# Altium footprint library S7500_DRIVER.PcbLib: 20 footprints (part 1 of 2)
Each footprint in its own frame and in the unit in brackets; x right, y up, seen from the top. Pads: shape width x height; smd on the part's side, far side on the other; paste and mask are expansions set on the pad; w line width, h text height; cw(c..) or ccw(c..) is an arc to the next point about the centre after c.
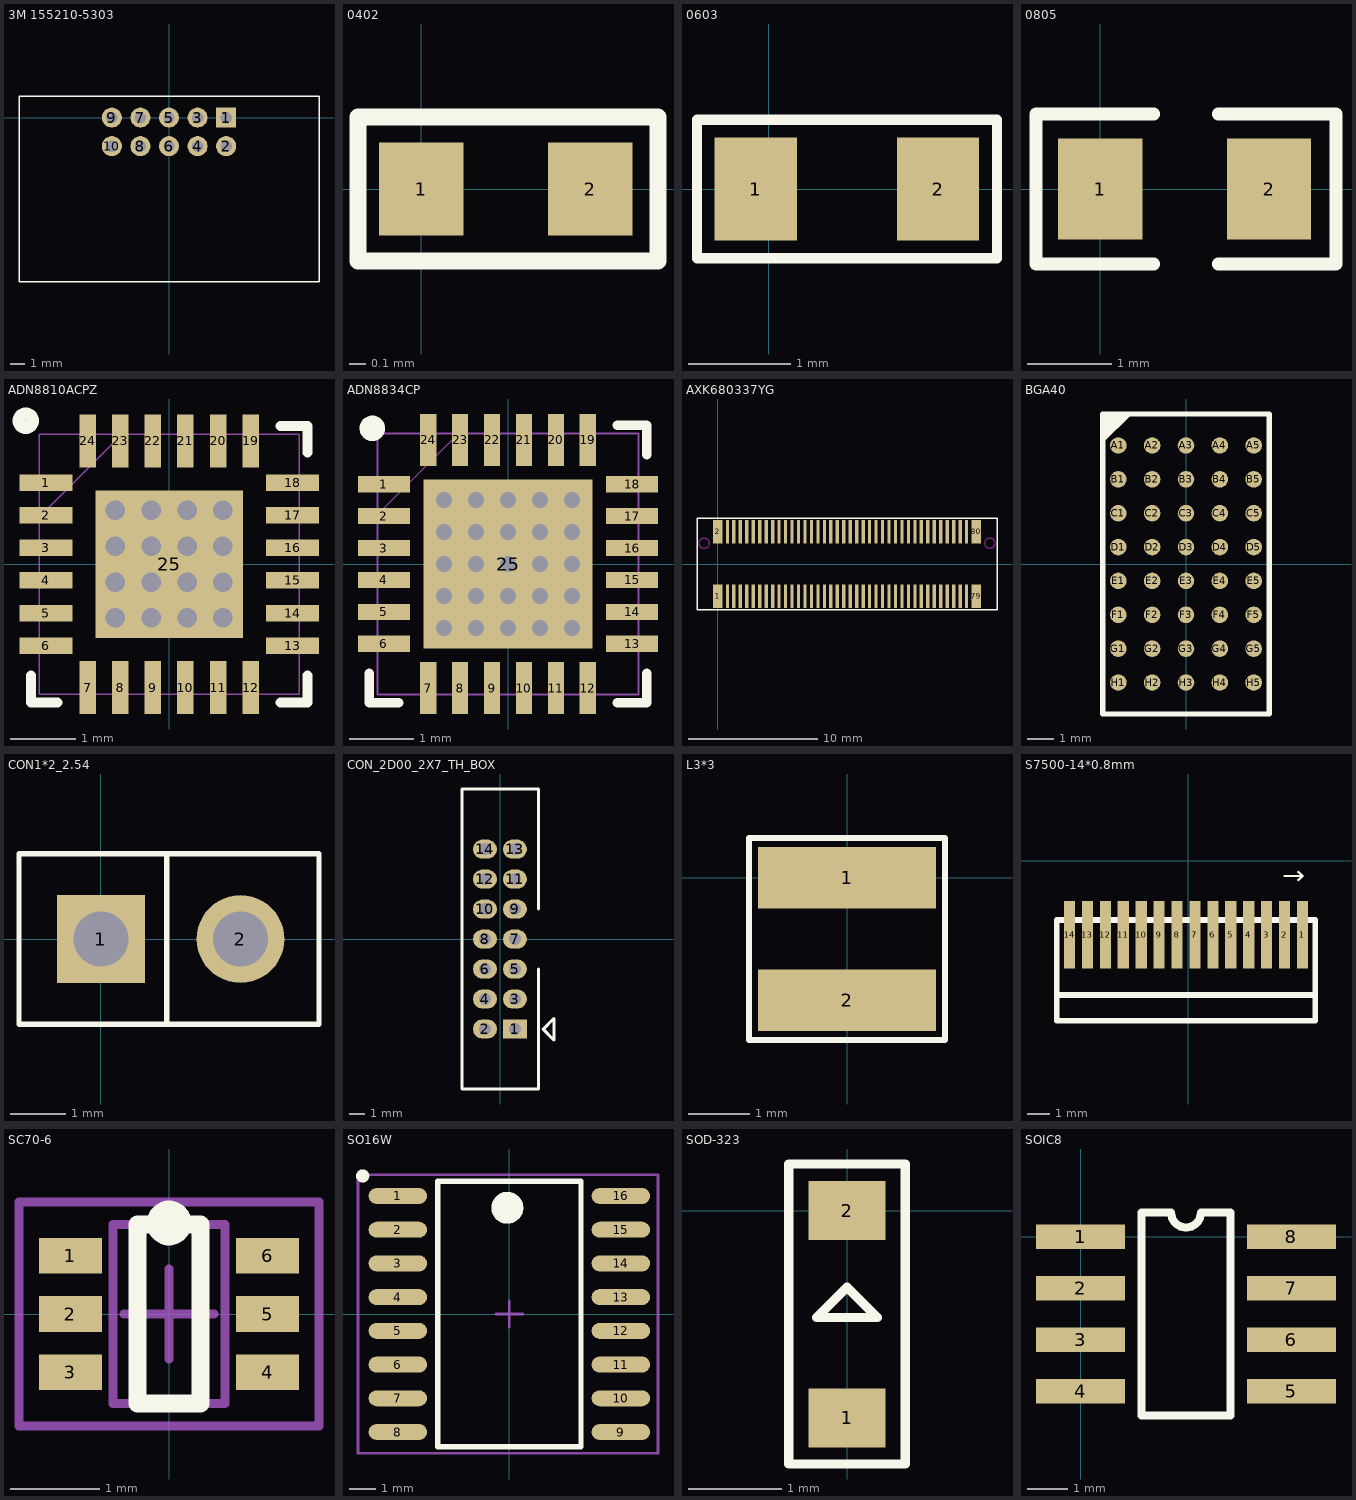
[diagram p0: the footprints below, top view; thin cyan lines are the x and y axes]

## 3M 155210-5303 [mm]
pads (10):
  rect 1.4x1.4 hole 0.8: 1(4,0)
  round 1.4 hole 0.8: 2(4,-2) 3(2,0) 4(2,-2) 5(0,0) 6(0,-2) 7(-2,0) 8(-2,-2) 9(-4,0) 10(-4,-2)
Top Overlay:
  lines w0.1: -10.5,-11.5 10.5,-11.5 10.5,1.5 -10.5,1.5 -10.5,-11.5

## 0402 [mm]
pads (2):
  rect 0.5x0.55 smd: 1(0,0) 2(1,0)
Top Overlay:
  lines w0.1: -0.375,-0.425 -0.375,0.425 1.4,0.425 1.4,-0.425 -0.375,-0.425

## 0603 [mm]
pads (2):
  rect 0.8x1 smd: 1(-0.127,0) 2(1.651,0)
Top Overlay:
  lines w0.1: -0.7,-0.675 2.225,-0.675 2.225,0.675 -0.7,0.675 -0.7,-0.675

## 0805 [mm]
pads (2):
  rect 1x1.2 smd: 1(0,0) 2(2,0)
Top Overlay:
  lines w0.15: 0.635,-0.889 -0.762,-0.889 -0.762,0.889 0.635,0.889 ; 1.397,-0.889 2.794,-0.889 2.794,0.889 1.397,0.889

## ADN8810ACPZ [mil]
pads (25):
  rect 32x10 smd paste+0 mask+4: 1(-74.5,49.21) 2(-74.5,29.53) 3(-74.5,9.84) 4(-74.5,-9.84) 5(-74.5,-29.53) 6(-74.5,-49.21) 13(74.5,-49.21) 14(74.5,-29.53) 15(74.5,-9.84) 16(74.5,9.84) 17(74.5,29.53) 18(74.5,49.21)
  rect 10x32 smd paste+0 mask+4: 7(-49.21,-74.5) 8(-29.53,-74.5) 9(-9.84,-74.5) 10(9.84,-74.5) 11(29.53,-74.5) 12(49.21,-74.5) 19(49.21,74.5) 20(29.53,74.5) 21(9.84,74.5) 22(-9.84,74.5) 23(-29.53,74.5) 24(-49.21,74.5)
  rect 89x89 smd paste+0 mask+4: 25(0,0)
via -32.48,-32.48 diameter 19.68 hole 11.81
via 32.48,-32.48 diameter 19.68 hole 11.81
via -10.83,-32.48 diameter 19.68 hole 11.81
via 10.83,-32.48 diameter 19.68 hole 11.81
via 32.48,-10.83 diameter 19.68 hole 11.81
via -10.83,-10.83 diameter 19.68 hole 11.81
via 10.83,-10.83 diameter 19.68 hole 11.81
via 32.48,10.83 diameter 19.68 hole 11.81
via -10.83,10.83 diameter 19.68 hole 11.81
via 10.83,10.83 diameter 19.68 hole 11.81
via -32.48,10.83 diameter 19.68 hole 11.81
via -32.48,-10.83 diameter 19.68 hole 11.81
via 10.83,32.48 diameter 19.68 hole 11.81
via -10.83,32.48 diameter 19.68 hole 11.81
via 32.48,32.48 diameter 19.68 hole 11.81
via -32.48,32.48 diameter 19.68 hole 11.81
Top Overlay:
  lines w6: -83.5,-67.31 -83.5,-83.5 -67.31,-83.5 ; 67.31,-83.5 83.5,-83.5 83.5,-67.31 ; 67.31,83.5 83.5,83.5 83.5,67.31
  lines w7.87: -82.63,85.82 cw(c-86.61,86.61) -82.56,86.61
Mechanical 13:
  lines w1: -78.5,28.5 -28.5,78.5 ; -78.5,-78.5 -78.5,78.5 78.5,78.5 78.5,-78.5 -78.5,-78.5 ; -78.5,-55.21 -78.5,-43.21 -78.5,-55.21 ; -78.5,-35.53 -78.5,-23.53 -78.5,-35.53 ; -78.5,-15.84 -78.5,-3.84 -78.5,-15.84 ; -78.5,3.84 -78.5,15.84 -78.5,3.84 ; -78.5,23.53 -78.5,35.53 -78.5,23.53 ; -78.5,43.21 -78.5,55.21 -78.5,43.21 ; -55.21,-78.5 -43.21,-78.5 -55.21,-78.5 ; -55.21,78.5 -43.21,78.5 -55.21,78.5 ; -35.53,-78.5 -23.53,-78.5 -35.53,-78.5 ; -35.53,78.5 -23.53,78.5 -35.53,78.5 ; -15.84,-78.5 -3.84,-78.5 -15.84,-78.5 ; -15.84,78.5 -3.84,78.5 -15.84,78.5 ; 3.84,-78.5 15.84,-78.5 3.84,-78.5 ; 3.84,78.5 15.84,78.5 3.84,78.5 ; 23.53,-78.5 35.53,-78.5 23.53,-78.5 ; 23.53,78.5 35.53,78.5 23.53,78.5 ; 43.21,-78.5 55.21,-78.5 43.21,-78.5 ; 43.21,78.5 55.21,78.5 43.21,78.5 ; 78.5,-55.21 78.5,-43.21 78.5,-55.21 ; 78.5,-35.53 78.5,-23.53 78.5,-35.53 ; 78.5,-15.84 78.5,-3.84 78.5,-15.84 ; 78.5,3.84 78.5,15.84 78.5,3.84 ; 78.5,23.53 78.5,35.53 78.5,23.53 ; 78.5,43.21 78.5,55.21 78.5,43.21
  text "*" at -71,34.06 h23.62
3D body "CP_24_1_ADI.step": height 39.09, standoff 0, extent -78.5,-78.5 78.5,78.5

## ADN8834CP [mil]
pads (25):
  rect 32x10 smd paste+0 mask+3.94: 1(-76.5,49.21) 2(-76.5,29.53) 3(-76.5,9.84) 4(-76.5,-9.84) 5(-76.5,-29.53) 6(-76.5,-49.21) 13(76.5,-49.21) 14(76.5,-29.53) 15(76.5,-9.84) 16(76.5,9.84) 17(76.5,29.53) 18(76.5,49.21)
  rect 10x32 smd paste+0 mask+3.94: 7(-49.21,-76.5) 8(-29.53,-76.5) 9(-9.84,-76.5) 10(9.84,-76.5) 11(29.53,-76.5) 12(49.21,-76.5) 19(49.21,76.5) 20(29.53,76.5) 21(9.84,76.5) 22(-9.84,76.5) 23(-29.53,76.5) 24(-49.21,76.5)
  rect 104x104 smd paste-51.5 mask+0: 25(0,0)
via 19.68,-19.68 diameter 15.75 hole 9.84
via 39.37,-39.37 diameter 15.75 hole 9.84
via 39.37,-19.68 diameter 15.75 hole 9.84
via -39.37,0 diameter 15.75 hole 9.84
via -39.37,0 diameter 15.75 hole 9.84
via -19.68,-39.37 diameter 15.75 hole 9.84
via 0,-39.37 diameter 15.75 hole 9.84
via 19.68,-39.37 diameter 15.75 hole 9.84
via -19.68,-19.68 diameter 15.75 hole 9.84
via 0,-19.68 diameter 15.75 hole 9.84
via -19.68,0 diameter 15.75 hole 9.84
via 0,0 diameter 15.75 hole 9.84
via 19.68,0 diameter 15.75 hole 9.84
via 39.37,0 diameter 15.75 hole 9.84
via -19.68,19.68 diameter 15.75 hole 9.84
via 0,19.68 diameter 15.75 hole 9.84
via 19.68,19.68 diameter 15.75 hole 9.84
via 39.37,19.68 diameter 15.75 hole 9.84
via -39.37,19.68 diameter 15.75 hole 9.84
via -39.37,-19.68 diameter 15.75 hole 9.84
via -39.37,-39.37 diameter 15.75 hole 9.84
via 39.37,39.37 diameter 15.75 hole 9.84
via 19.68,39.37 diameter 15.75 hole 9.84
via 0,39.37 diameter 15.75 hole 9.84
via -19.68,39.37 diameter 15.75 hole 9.84
via -39.37,39.37 diameter 15.75 hole 9.84
Top Overlay:
  lines w6: -85.5,-67.31 -85.5,-85.5 -67.31,-85.5 ; 67.31,-85.5 85.5,-85.5 85.5,-67.31 ; 67.31,85.5 85.5,85.5 85.5,67.31
  lines w7.87: -79.74,83.27 cw(c-83.66,83.66) -79.72,83.66
Top Paste:
  region: 48.06,-3.94 3.94,-3.94 3.94,-48.06 48.06,-48.06
  region: 48.06,48.06 3.94,48.06 3.94,3.94 48.06,3.94
  region: -3.94,-3.94 -48.06,-3.94 -48.06,-48.06 -3.94,-48.06
  region: -3.94,48.06 -48.06,48.06 -48.06,3.94 -3.94,3.94
Mechanical 13:
  lines w1: -80.5,30.5 -30.5,80.5 ; -80.5,-80.5 -80.5,80.5 80.5,80.5 80.5,-80.5 -80.5,-80.5 ; -80.5,-55.21 -80.5,-43.21 -80.5,-55.21 ; -80.5,-35.53 -80.5,-23.53 -80.5,-35.53 ; -80.5,-15.84 -80.5,-3.84 -80.5,-15.84 ; -80.5,3.84 -80.5,15.84 -80.5,3.84 ; -80.5,23.53 -80.5,35.53 -80.5,23.53 ; -80.5,43.21 -80.5,55.21 -80.5,43.21 ; -55.21,-80.5 -43.21,-80.5 -55.21,-80.5 ; -55.21,80.5 -43.21,80.5 -55.21,80.5 ; -35.53,-80.5 -23.53,-80.5 -35.53,-80.5 ; -35.53,80.5 -23.53,80.5 -35.53,80.5 ; -15.84,-80.5 -3.84,-80.5 -15.84,-80.5 ; -15.84,80.5 -3.84,80.5 -15.84,80.5 ; 3.84,-80.5 15.84,-80.5 3.84,-80.5 ; 3.84,80.5 15.84,80.5 3.84,80.5 ; 23.53,-80.5 35.53,-80.5 23.53,-80.5 ; 23.53,80.5 35.53,80.5 23.53,80.5 ; 43.21,-80.5 55.21,-80.5 43.21,-80.5 ; 43.21,80.5 55.21,80.5 43.21,80.5 ; 80.5,-55.21 80.5,-43.21 80.5,-55.21 ; 80.5,-35.53 80.5,-23.53 80.5,-35.53 ; 80.5,-15.84 80.5,-3.84 80.5,-15.84 ; 80.5,3.84 80.5,15.84 80.5,3.84 ; 80.5,23.53 80.5,35.53 80.5,23.53 ; 80.5,43.21 80.5,55.21 80.5,43.21
3D body "CP_24_7_ADI.step": height 32.09, standoff 0, extent -80.51,-80.51 80.51,80.51

## AXK680337YG [mm]
pads (80):
  rect 0.75x1.8 smd mask+0.025: 1(0,-2.5) 2(0,2.5) 79(20,-2.5) 80(20,2.5)
  rect 0.25x1.8 smd mask+0.025: 3(0.75,-2.5) 4(0.75,2.5) 5(1.25,-2.5) 6(1.25,2.5) 7(1.75,-2.5) 8(1.75,2.5) 9(2.25,-2.5) 10(2.25,2.5) 11(2.75,-2.5) 12(2.75,2.5) 13(3.25,-2.5) 14(3.25,2.5) 15(3.75,-2.5) 16(3.75,2.5) 17(4.25,-2.5) 18(4.25,2.5) 19(4.75,-2.5) 20(4.75,2.5) 21(5.25,-2.5) 22(5.25,2.5) 23(5.75,-2.5) 24(5.75,2.5) 25(6.25,-2.5) 26(6.25,2.5) 27(6.75,-2.5) 28(6.75,2.5) 29(7.25,-2.5) 30(7.25,2.5) 31(7.75,-2.5) 32(7.75,2.5) 33(8.25,-2.5) 34(8.25,2.5) 35(8.75,-2.5) 36(8.75,2.5) 37(9.25,-2.5) 38(9.25,2.5) 39(9.75,-2.5) 40(9.75,2.5) 41(10.25,-2.5) 42(10.25,2.5) 43(10.75,-2.5) 44(10.75,2.5) 45(11.25,-2.5) 46(11.25,2.5) 47(11.75,-2.5) 48(11.75,2.5) 49(12.25,-2.5) 50(12.25,2.5) 51(12.75,-2.5) 52(12.75,2.5) 53(13.25,-2.5) 54(13.25,2.5) 55(13.75,-2.5) 56(13.75,2.5) 57(14.25,-2.5) 58(14.25,2.5) 59(14.75,-2.5) 60(14.75,2.5) 61(15.25,-2.5) 62(15.25,2.5) 63(15.75,-2.5) 64(15.75,2.5) 65(16.25,-2.5) 66(16.25,2.5) 67(16.75,-2.5) 68(16.75,2.5) 69(17.25,-2.5) 70(17.25,2.5) 71(17.75,-2.5) 72(17.75,2.5) 73(18.25,-2.5) 74(18.25,2.5) 75(18.75,-2.5) 76(18.75,2.5) 77(19.25,-2.5) 78(19.25,2.5)
Top Overlay:
  lines w0.1: -1.6,-3.55 21.6,-3.55 21.6,3.55 -1.6,3.55 -1.6,-3.55
Keep-Out Layer:
  lines w0.1: -0.65,1.59 cw(c-1.05,1.6) -0.65,1.6 ; 21.45,1.59 cw(c21.05,1.6) 21.45,1.6

## BGA40 [mm] "BGA, 40-Leads, Body 11.3x6.3mm,  Pitch 1.27mm"
height 4.92
pads (40):
  round 0.62 smd: A1(-2.54,4.445) A2(-1.27,4.445) A3(0,4.445) A4(1.27,4.445) A5(2.54,4.445) B1(-2.54,3.175) B2(-1.27,3.175) B3(0,3.175) B4(1.27,3.175) B5(2.54,3.175) C1(-2.54,1.905) C2(-1.27,1.905) C3(0,1.905) C4(1.27,1.905) C5(2.54,1.905) D1(-2.54,0.635) D2(-1.27,0.635) D3(0,0.635) D4(1.27,0.635) D5(2.54,0.635) E1(-2.54,-0.635) E2(-1.27,-0.635) E3(0,-0.635) E4(1.27,-0.635) E5(2.54,-0.635) F1(-2.54,-1.905) F2(-1.27,-1.905) F3(0,-1.905) F4(1.27,-1.905) F5(2.54,-1.905) G1(-2.54,-3.175) G2(-1.27,-3.175) G3(0,-3.175) G4(1.27,-3.175) G5(2.54,-3.175) H1(-2.54,-4.445) H2(-1.27,-4.445) H3(0,-4.445) H4(1.27,-4.445) H5(2.54,-4.445)
Top Overlay:
  region: -2.16,5.625 -3.125,4.66 -3.125,5.625
  lines w0.2: -3.125,4.66 -2.16,5.625 ; -3.125,-5.625 -3.125,5.625 3.125,5.625 3.125,-5.625 -3.125,-5.625
Mechanical 13:
  lines w0.1: -3.125,-5.625 -3.125,5.625 3.125,5.625 3.125,-5.625 -3.125,-5.625

## CON1*2_2.54 [mm]
pads (2):
  rect 1.6x1.6 hole 1: 1(0,0)
  round 1.6 hole 1 paste+0: 2(2.54,0)
Top Overlay:
  lines w0.1: 1.2,-1.556 1.2,1.556 ; -1.492,-1.556 -1.492,1.556 3.969,1.556 3.969,-1.556 -1.492,-1.556

## CON_2D00_2X7_TH_BOX [mil] "CON_2D00_2X7_TH_BOX"
pads (14):
  rect 63x50 hole 32: 1(38.74,-236.44)
  oval 63x50 hole 32: 2(-40,-236.44) 3(38.74,-157.7) 4(-40,-157.7) 5(38.74,-78.96) 6(-40,-78.96) 7(38.74,-0.22) 8(-40,-0.22) 9(38.74,78.52) 10(-40,78.52) 11(38.74,157.26) 12(-40,157.26) 13(38.74,236) 14(-40,236)
Top Overlay:
  lines w7.87: 100,-78.96 100,-394 -100,-393.92 -100,394 100,394 100,393.48 100,78.52 ; 113,-237 141,-209 141,-265 113,-237

## L3*3 [mm]
pads (2):
  rect 2.9x1 smd: 1(0,0) 2(0,-2)
Top Overlay:
  lines w0.1: -1.6,-2.65 1.6,-2.65 1.6,0.65 -1.6,0.65 -1.6,-2.65

## S7500-14*0.8mm [mm]
pads (14):
  rect 0.5x3 smd: 1(5.092,-3.318) 2(4.292,-3.318) 3(3.492,-3.318) 4(2.692,-3.318) 5(1.892,-3.318) 6(1.092,-3.318) 7(0.292,-3.318) 8(-0.508,-3.318) 9(-1.308,-3.318) 10(-2.108,-3.318) 11(-2.908,-3.318) 12(-3.708,-3.318) 13(-4.508,-3.318) 14(-5.308,-3.318)
Top Overlay:
  lines w0.254: -5.842,-6.009 5.588,-6.009 ; -5.877,-7.161 -5.877,-2.661 5.663,-2.661 5.663,-7.161 -5.877,-7.161
  text "→" at 4.191,-1.374 h1.52

## SC70-6 [mm]
height 1
pads (6):
  rect 0.7x0.4 smd: 1(-1.1,0.65) 2(-1.1,0) 3(-1.1,-0.65) 4(1.1,-0.65) 5(1.1,0) 6(1.1,0.65)
Top Overlay:
  circle w0.25: c0.002,1.016 r0.125
  lines w0.2: -0.35,-1 0.35,-1 0.35,1 -0.35,1 -0.35,-1
Mechanical 13:
  lines w0.1: -0.625,-1 -0.625,1 0.625,1 0.625,-1 -0.625,-1
Mechanical 15:
  lines w0.1: -0.5,0 0.5,0 ; 0,-0.5 0,0.5 ; -1.675,-1.25 -1.675,1.25 1.675,1.25 1.675,-1.25 -1.675,-1.25
3D body: height 1, standoff 0.05, extent -0.625,-1 0.625,1

## SO16W [mm]
pads (16):
  oval 2.2x0.6 smd: 1(-4.2,4.445) 2(-4.2,3.175) 3(-4.2,1.905) 4(-4.2,0.635) 5(-4.2,-0.635) 6(-4.2,-1.905) 7(-4.2,-3.175) 8(-4.2,-4.445) 9(4.2,-4.445) 10(4.2,-3.175) 11(4.2,-1.905) 12(4.2,-0.635) 13(4.2,0.635) 14(4.2,1.905) 15(4.2,3.175) 16(4.2,4.445)
Top Overlay:
  circle w0.25: c-5.525,5.2 r0.125
  circle w0.6: c-0.075,4 r0.3
  lines w0.2: -2.7,-5 -2.7,5 2.7,5 2.7,-5 -2.7,-5
Mechanical 15:
  lines w0.1: -0.5,0 0.5,0 ; 0,-0.5 0,0.5 ; -5.7,-5.25 -5.7,5.25 5.6,5.25 5.6,-5.25 -5.7,-5.25

## SOD-323 [mm]
pads (2):
  rect 0.83x0.63 smd: 1(0,-2.23) 2(0,0)
Top Overlay:
  lines w0.1: 0,-0.825 0.325,-1.15 -0.325,-1.15 0,-0.825 ; 0,-0.825 0,-0.825 ; -0.625,-2.725 0.625,-2.725 0.625,0.5 -0.625,0.5 -0.625,-2.725

## SOIC8 [mm]
pads (8):
  rect 2.2x0.6 smd: 1(0,0) 2(0,-1.27) 3(0,-2.54) 4(0,-3.81) 5(5.2,-3.81) 6(5.2,-2.54) 7(5.2,-1.27) 8(5.2,0)
Top Overlay:
  lines w0.2: 1.5,-4.405 3.7,-4.405 3.7,0.595 2.967,0.595 cw(c2.6,0.595) 2.233,0.595 1.5,0.595 1.5,-4.405